# EAGLE library part LCD_HOLES (library TABOR K1)
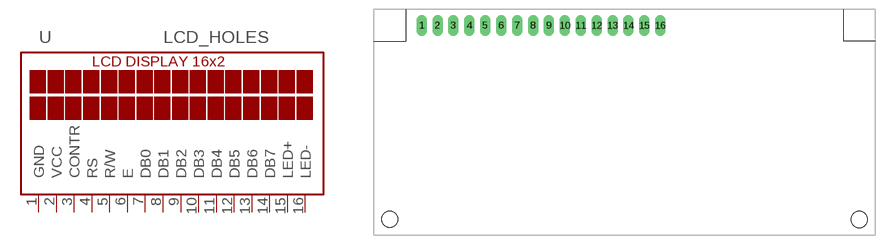
[diagram p62: symbol with the pads of LCD_DISPLEJ_16X2_BOTOM_HOLES; footprint LCD_DISPLEJ_16X2_BOTOM_HOLES]

Designator prefix -

## LCD_HOLES  [LCD_DISPLEJ_16X2_BOTOM_HOLES]
1  GND  pwr
2  VCC  pwr
3  CONTR  in
4  RS  in
5  R/W  in
6  E  in
7  DB0
8  DB1
9  DB2
10  DB3
11  DB4
12  DB5
13  DB6
14  DB7
15  LED+  pas
16  LED-  pas

## Footprint LCD_DISPLEJ_16X2_BOTOM_HOLES (pad centres in mm)
LCD displej 16x2 s IO HD44870 : kolik= 0,6x0,6mm diera s pokovenim = 0,9mm vrtanie = 1,1mm
drill 1.092 pad 1.676 long: 1 -33.02,15.24; 2 -30.48,15.24; 3 -27.94,15.24; 4 -25.4,15.24; 5 -22.86,15.24; 6 -20.32,15.24; 7 -17.78,15.24; 8 -15.24,15.24; 9 -12.7,15.24; 10 -10.16,15.24; 11 -7.62,15.24; 12 -5.08,15.24; 13 -2.54,15.24; 14 0,15.24; 15 2.54,15.24; 16 5.08,15.24